# Altium schematic symbol library OKI-78SR-5_1.5-W36E-C.SchLib: 1 symbol
Pins are listed as number, name and electrical type; pins without a type are passive.

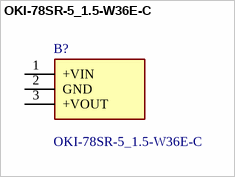
[diagram p0: symbol OKI-78SR-5_1.5-W36E-C]

## OKI-78SR-5_1.5-W36E-C
designator B?
Murata Power Solutions Non-Isolated DC-DC Converter, 12V dc Input, 5V dc Output, 1.5A; Manufacturer_Name: Murata Electronics; Manufacturer_Part_Number: OKI-78SR-5/1.5-W36E-C; Geometry.Height: 17.6mm; Mouser Part Number: 580-OK78SR5/1.5W36EC; Mouser Price/Stock: https://www.mouser.co.uk/ProductDetail/Murata-Power-Solutions/OKI-78SR-5-1.5-W36E-C?qs=AQlKX63v8RuEG78g20Kcig%3D%3D; Datasheet Link: *
footprint OKI78SR515W36EC
pins: 1 +VIN, 2 GND, 3 +VOUT